# EAGLE library part 1324ПЦ1 (library microwave)
АЕЯР.431000.760–03 ТУ 1324ПЦ1 - СВЧ МИС широкополосного статического делителя частоты с фиксированным коэффициентом деления 2 в диапазоне рабочих частот до 3,9 ГГц, согласованная по входу и выходу с линией с волновым сопротивлением 50 Ом, обладает широким динамическим диапазоном по входу от -19 дБм до +10 дБм. Имеет вход для подачи сигнала отключения питания. Достоинства: ► Диапазон рабочих частот 0,1-3,9 ГГц ► Динамический диапазон -19..+10 дБм ► Уровень фазовых шумов -147 дБ/Гц ► Выходное напряжение 350 мВ ► Однополярное питание +5 В ► Потребляемый ток 45 мА ► Диапазон рабочих температур -60…+85 °С Электрические параметры при Uп=5 В, Rн=50 Ом, Т=25 °С, если не указано иного. Параметр, единица измерения Условия 1324 ПЦ1У мин. тип. макс. Нижняя граница диапазона рабочих частот при синусоидальном входном сигнале, МГц Рвх=1 мВт 100 Верхняя граница диапазона рабочих частот, ГГц Рвх=1 мВт 3,5 3,9 Чувствительность, дБм fвх=2,5 ГГц -19 Верхний предел входной мощности, дБм fвх=2,5 ГГц +10 Уровень фазовых шумов, дБ/Гц отстройка 10 кГц -147 Амплитуда выходного напряжения, мВ fвх=200 МГц 250 350 Амплитуда выходного напряжения, мВ fвх=3,5 ГГц 140 Ток потребления, мА 45 70 Диапазон рабочих температур, °С -60 +85 Тепловое сопротивление «переход-среда», °С/Вт Корпус 5140.8-АНЗ 100 Производитель: ОАО «НПП «ПУЛЬСАР», г. Москва.
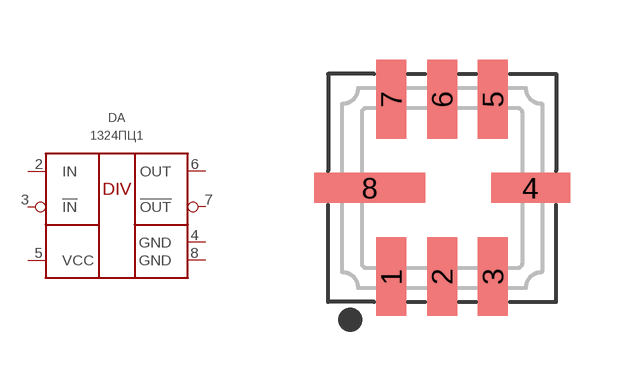
[diagram p12: symbol with the pads of 5140.8-АН3; footprint 5140.8-АН3]

Designator prefix DA

## 1324ПЦ1У  [5140.8-АН3]
2  IN  in
3  !IN  in
4  GND  pwr
5  VCC  pwr
6  OUT  out
7  !OUT  out
8  GND  pwr

## Footprint 5140.8-АН3 (pad centres in mm)
smd 0.75 x 1.97: 1 -1.27,-2.215; 2 0,-2.215; 3 1.27,-2.215; 5 1.27,2.215; 6 0,2.215; 7 -1.27,2.215
smd 1.97 x 0.75: 4 2.215,0
smd 2.78 x 0.75: 8 -1.81,0